# Altium footprint library SW-TH-5G-1LED.PcbLib: 1 footprints
Each footprint in its own frame and in the unit in brackets; x right, y up, seen from the top. Pads: shape width x height; smd on the part's side, far side on the other; paste and mask are expansions set on the pad; w line width, h text height; cw(c..) or ccw(c..) is an arc to the next point about the centre after c.
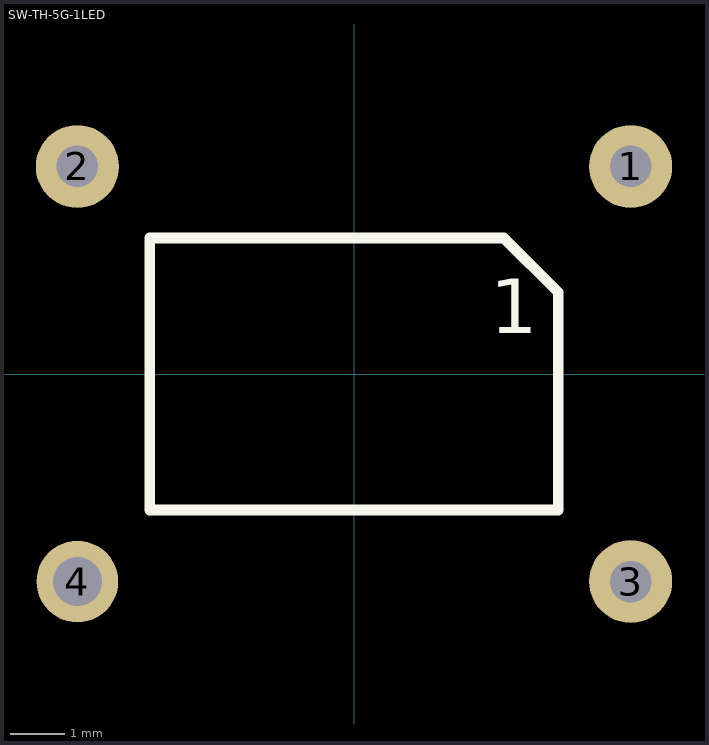
[diagram p0: the footprint, top view; thin cyan lines are the x and y axes]

## SW-TH-5G-1LED [mil]
pads (4):
  round 60 hole 30: 1(200,150) 2(-200,150) 3(200,-150)
  round 59.06 hole 35.43: 4(-200,-150)
Top Overlay:
  lines w7.87: -147.64,-98.43 147.64,-98.43 147.64,59.06 108.27,98.43 -147.64,98.43 -147.64,-98.43
  text "1" at 98.43,29.53 h39.37
3D body: height 330.21, standoff -153.54, extent -215.54,-196.84 215.55,196.86